# Altium schematic symbol library DIOT_temperature_logger.SCHLIB: 101 symbols (part 1 of 2)
Pins are listed as number, name and electrical type; pins without a type are passive.

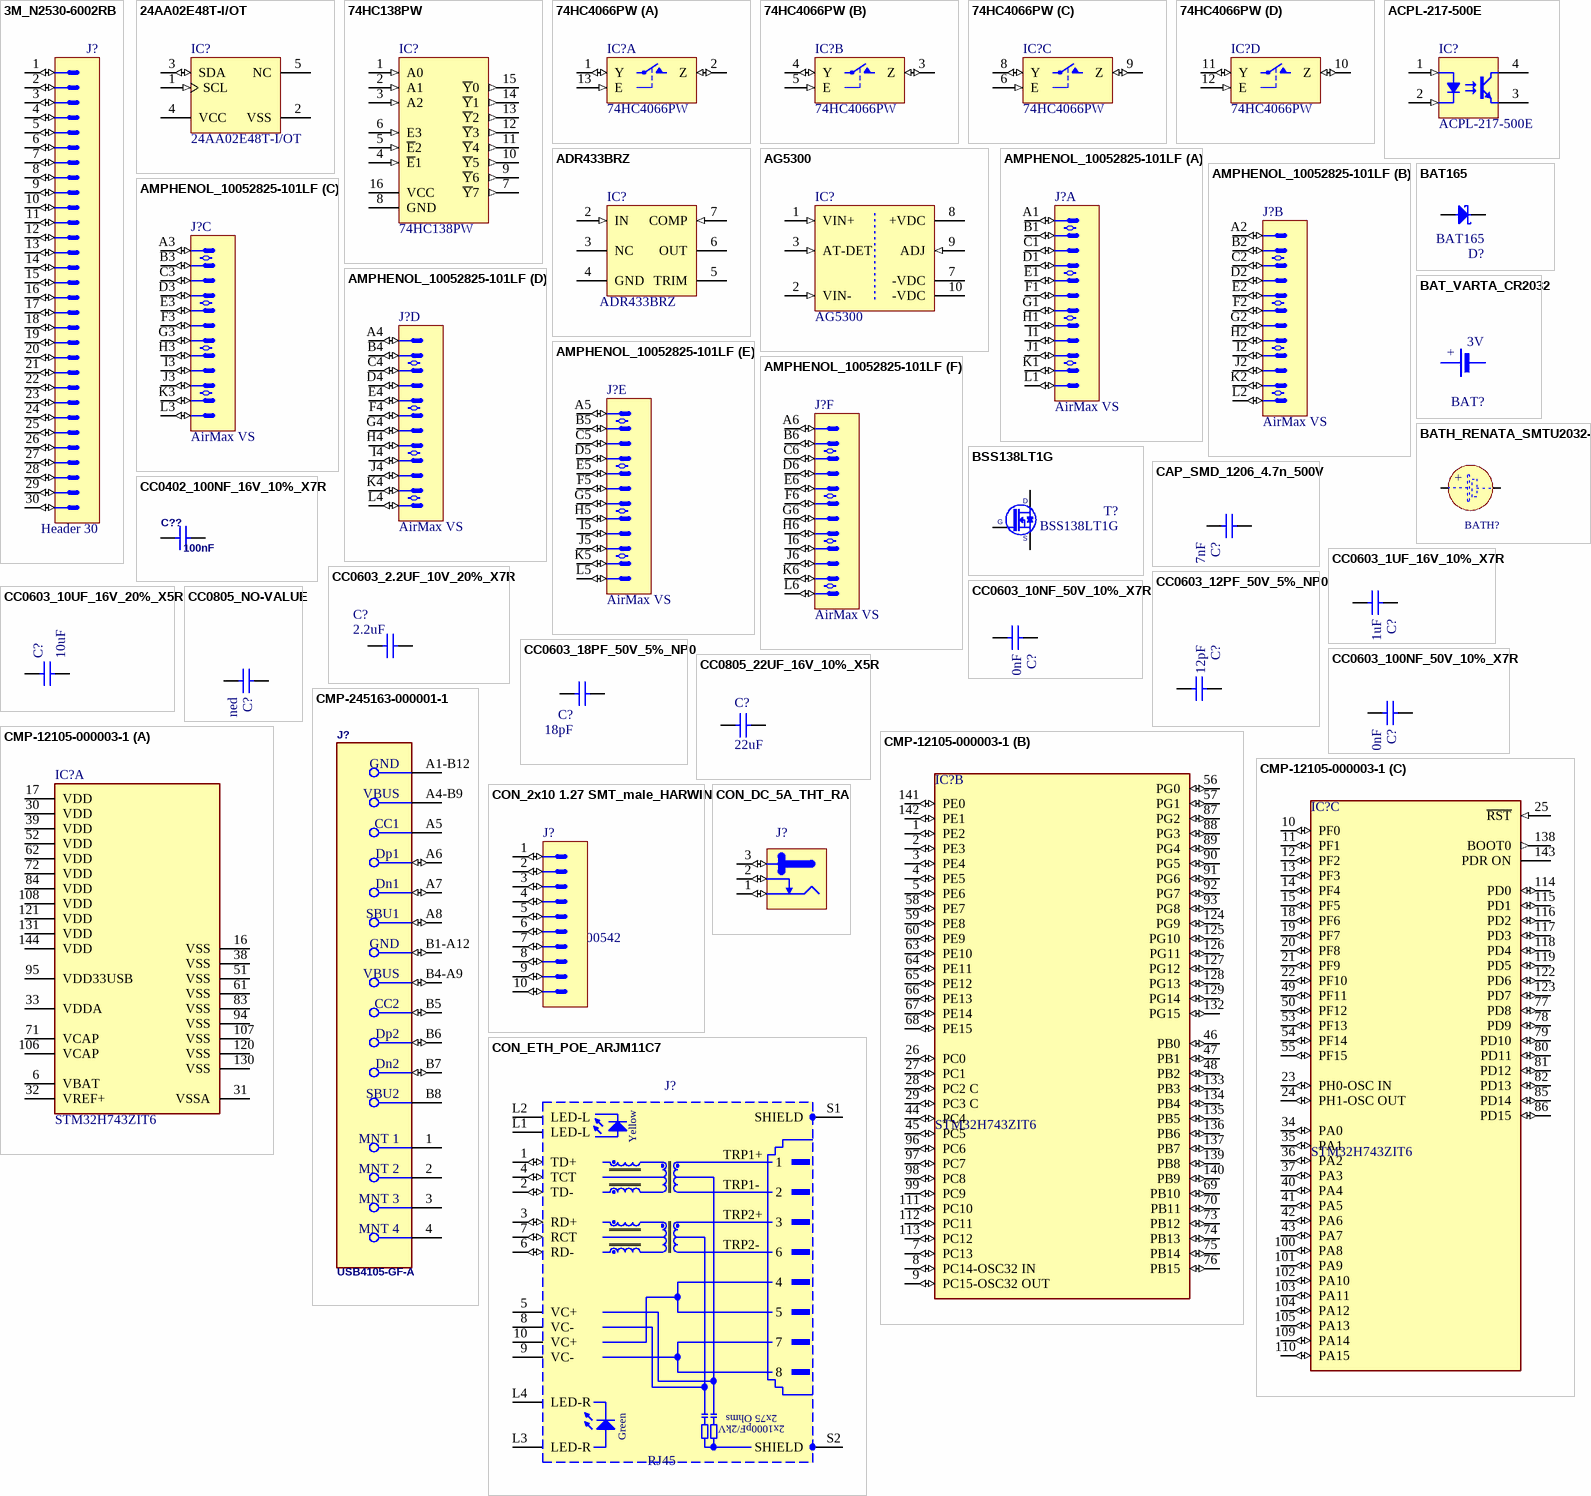
[diagram p0: symbols 3M_N2530-6002RB to CON_ETH_POE_ARJM11C7]

## 3M_N2530-6002RB
designator J?, comment Header 30
Connector 30 Male; Part Number: 3M_N2530-6002RB; Part Description: 30 Contacts, Straight .100'' x .100'' Low Profile Four-Wall Header, (Solder Tail 2.84mm), 2500 Series; Manufacturer: 3M; Manufacturer Part Number: N2530-6002RB; PressFit: No; Component Kind: Standard; Component Type: Standard; Footprint: 3M_N2530-6002RB; Pin Count: 30; Family: Header 30; Mounted: Yes; Socket: No; SMD: No; Sense: No; Status: None; ComponentHeight: 10.03mm; HelpURL: \\cern.ch\dfs\Applications\Altium\Datasheets\3M_N2530-6002RB.pdf; Author: CERN DEM JLC; CreateDate: 11.02.2009; LatestRevisionDate: 27.10.2022
footprint 3M_N2530-6002RB
pins: 1 (io), 2 (io), 3 (io), 4 (io), 5 (io), 6 (io), 7 (io), 8 (io), 9 (io), 10 (io), 11 (io), 12 (io), 13 (io), 14 (io), 15 (io), 16 (io), 17 (io), 18 (io), 19 (io), 20 (io), 21 (io), 22 (io), 23 (io), 24 (io), 25 (io), 26 (io), 27 (io), 28 (io), 29 (io), 30 (io)
1 alternate drawing of the same symbol

## 24AA02E48T-I/OT
designator IC?
1.7V-5.5V, 2K I2C Serial EEPROM With EUI-48 Node Identity; Manufacturer: MICROCHIP TECHNOLOGY; PressFit: No; Bonding: No; Part Number: 24AA02E48T-I/OT; Component Kind: Standard; Component Type: Standard; Device: 24AA02E48T-I/OT; Footprint: SOT95P280X145-5N; PackageDescription: SOT, 0.95mm pitch; 5 pin, 1.60mm W X 2.90mm L X 1.45mm H body, IPC Medium Density; Part Description: 1.7V-5.5V, 2K I2C Serial EEPROM with EUI-48 Node Identity; Manufacturer Part Number: 24AA02E48T-I/OT; Pin Count: 5; Case: SOT23-5; Mounted: Yes; Socket: No; SMD: Yes; Sense: No; ComponentHeight: 1.45mm; HelpURL: \\cern.ch\dfs\Applications\Altium\Datasheets\24AA02E48T-I-OT.pdf; Author: CERN DEM MR; CreateDate: 31.03.2016; LatestRevisionDate: 31.03.2016
footprint SOT95P280X145-5N
pins: 1 SCL (in), 2 VSS (power), 3 SDA (io), 4 VCC (power), 5 NC

## 74HC138PW
designator IC?
3-Line to 8-Line Decoder/Demultiplexer; Part Description: 3-Line to 8-Line Decoder/Demultiplexer, Inverting; Manufacturer: NXP SEMICONDUCTORS; PressFit: No; Bonding: No; Part Number: 74HC138PW; Component Kind: Standard; Component Type: Standard; Device: 74HC138PW; Footprint: SOP65P640X110-16N; PackageDescription: SOP, 0.65mm Pitch; 16 Pin, 4.40mm W X 5.00mm L X 1.10mm H body IPC Medium Density; Manufacturer Part Number: 74HC138PW; Pin Count: 16; Case: TSSOP16; Mounted: Yes; Socket: No; SMD: Yes; Sense: No; ComponentHeight: 1.1mm; Author: CERN DEM JLC; HelpURL: \\cern.ch\dfs\Applications\Altium\Datasheets\74HC138PW.pdf; CreateDate: 09.06.2015; LatestRevisionDate: 09.06.2015
footprint SOP65P640X110-16N
pins: 1 A0 (in), 2 A1 (in), 3 A2 (in), 4 ~{E}1 (in), 5 ~{E}2 (in), 6 E3 (in), 7 ~{Y}7 (out), 8 GND (power), 9 ~{Y}6 (out), 10 ~{Y}5 (out), 11 ~{Y}4 (out), 12 ~{Y}3 (out), 13 ~{Y}2 (out), 14 ~{Y}1 (out), 15 ~{Y}0 (out), 16 VCC (power)

## 74HC4066PW
designator IC?
Part Description: Quad Single-Pole Single-Throw Analog Switch; Manufacturer: NXP SEMICONDUCTORS; PressFit: No; Bonding: No; Part Number: 74HC4066PW; Component Kind: Standard; Component Type: Standard; Device: 74HC4066PW; Footprint: SOP65P640X110-14N; PackageDescription: SOP, 0.65mm Pitch; 14 Pin, 4.40mm W X 5.00mm L X 1.20mm H body, IPC Medium Density; Manufacturer Part Number: 74HC4066PW; Pin Count: 14; Case: TSSOP14; Mounted: Yes; Socket: No; SMD: Yes; Sense: No; ComponentHeight: 1.1mm; Author: CERN DEM JLC; HelpURL: \\cern.ch\dfs\Applications\Altium\Datasheets\74HC4066PW.pdf; CreateDate: 19.11.2014; LatestRevisionDate: 19.11.2014
footprint SOP65P640X110-14N
pins on every part: 7 GND (power) hidden to GND, 14 VCC (power) hidden to VCC
part A pins: 1 Y (io), 2 Z (io), 13 E (in)
part B pins: 3 Z (io), 4 Y (io), 5 E (in)
part C pins: 6 E (in), 8 Y (io), 9 Z (io)
part D pins: 10 Z (io), 11 Y (io), 12 E (in)

## ACPL-217-500E
designator IC?
Single Optocoupler; Part Description: DC Input, Half-Pitch Phototransistor Optocoupler; Manufacturer: AVAGO TECHNOLOGIES; PressFit: No; Bonding: No; Part Number: ACPL-217-500E; Component Kind: Standard; Component Type: Standard; Device: ACPL-217-500E; Footprint: SOIC127P700X242-4N; PackageDescription: SOIC, 1.27mm Pitch; 4 Pin, 2.60mm W X 4.40mm L X 2.42mm H body, IPC Medium Density; Status: Not Recommended; Manufacturer Part Number: ACPL-217-500E; Pin Count: 4; Case: SOIC4; Mounted: Yes; Socket: No; SMD: Yes; Sense: No; ComponentHeight: 2.42mm; HelpURL: \\cern.ch\dfs\Applications\Altium\Datasheets\ACPL-217-500E.pdf; Author: CERN DEM JLC; CreateDate: 11.11.2014; LatestRevisionDate: 11.11.2014
footprint SOIC127P700X242-4N
pins: 1 A (in), 2 C (in), 3 E (oe), 4 C (oc)

## ADR433BRZ
designator IC?
3.000V ±0.05% 3ppm/°C Ultralow Noise XFET Voltage Reference with Current Sink and Source Capability; Part Description: 3V Output,  ±1.5mV ±0.05% Accuracy, 3ppm/°C Ultralow Noise XFET Voltage Reference with Current Sink and Source Capability; Manufacturer: ANALOG DEVICES; PressFit: No; Bonding: No; Part Number: ADR433BRZ; Component Kind: Standard; Component Type: Standard; Device: ADR433BRZ; Footprint: SOIC127P600X175-8N; PackageDescription: SOIC 8, Pitch 1.27mm, Body 4x5mm, IPC Medium Density; Manufacturer Part Number: ADR433BR; Pin Count: 6; Case: SOIC8; Mounted: Yes; Socket: No; SMD: Yes; Sense: No; ComponentHeight: 1.75mm; HelpURL: \\cern.ch\dfs\Applications\Altium\Datasheets\ADR433BRZ.pdf; Author: CERN DEM JMW; CreateDate: 30.07.2014; LatestRevisionDate: 04.04.2022
footprint SOIC127P600X175-8N
pins: 2 IN (in), 3 NC, 4 GND (power), 5 TRIM, 6 OUT (power), 7 COMP (in)

## AG5300
designator IC?
Power-over-Ethernet Plus (POE+) Module; Part Description: 12V 30W Power-over-Ethernet Plus (POE+); Manufacturer: SILVERTEL; PressFit: No; Bonding: No; Part Number: AG5300; Component Kind: Standard; Component Type: Standard; Device: AG5300; Footprint: SILVERTEL_AG5300; PackageDescription: Power-over-Ethernet Plus (POE+) Module, Body L 57.3mm x W 18mm x H 14mm; Manufacturer Part Number: AG5300; Pin Count: 10; Mounted: Yes; Socket: No; SMD: No; Sense: No; ComponentHeight: 14mm; HelpURL: \\cern.ch\dfs\Applications\Altium\Datasheets\AG5300.pdf; Author: CERN DEM JLC; CreateDate: 20.03.2018; LatestRevisionDate: 20.03.2018
footprint SILVERTEL_AG5300
pins: 1 VIN+ (in), 2 VIN- (in), 3 AT-DET (in), 7 -VDC (power), 8 +VDC (power), 9 ADJ (in), 10 -VDC (power)

## AMPHENOL_10052825-101LF
designator J?, comment AirMax VS
72 Contacts Header, 6 Columns, 4 Pairs per Column; Part Number: AMPHENOL_10052825-101LF; Part Description: 72 Contacts, 2mm Pitch, 6 Columns, 4 Pairs per Column, 4 Walls, Right Angle Header; Manufacturer: AMPHENOL; Manufacturer Part Number: 10052825-101LF; Component Kind: Standard; Component Type: Standard; Footprint: AMPHENOL_10052825-101LF; Pin Count: 72; Family: AirMax VS; Mounted: Yes; Socket: No; SMD: No; PressFit: Yes; Sense: No; Status: None; ComponentHeight: 15.35mm; HelpURL: \\cern.ch\dfs\Applications\Altium\Datasheets\AMPHENOL_10052825-101LF.pdf; ComponentLink1URL: \\cern.ch\dfs\Applications\Altium\Datasheets\AMPHENOL_10052825-101LF_Application.pdf; ComponentLink1Description: Application; Author: CERN DEM MR; CreateDate: 19.02.2018; LatestRevisionDate: 19.02.2018
footprint AMPHENOL_10052825-101LF
part A pins: A1 (io), B1 (io), C1 (io), D1 (io), E1 (io), F1 (io), G1 (io), H1 (io), I1 (io), J1 (io), K1 (io), L1 (io)
part B pins: A2 (io), B2 (io), C2 (io), D2 (io), E2 (io), F2 (io), G2 (io), H2 (io), I2 (io), J2 (io), K2 (io), L2 (io)
part C pins: A3 (io), B3 (io), C3 (io), D3 (io), E3 (io), F3 (io), G3 (io), H3 (io), I3 (io), J3 (io), K3 (io), L3 (io)
part D pins: A4 (io), B4 (io), C4 (io), D4 (io), E4 (io), F4 (io), G4 (io), H4 (io), I4 (io), J4 (io), K4 (io), L4 (io)
part E pins: A5 (io), B5 (io), C5 (io), D5 (io), E5 (io), F5 (io), G5 (io), H5 (io), I5 (io), J5 (io), K5 (io), L5 (io)
part F pins: A6 (io), B6 (io), C6 (io), D6 (io), E6 (io), F6 (io), G6 (io), H6 (io), I6 (io), J6 (io), K6 (io), L6 (io)
1 alternate drawing of the same symbol

## BAT165
designator D?
Schottky Diode; Part Description: Medium Power AF Schottky Diode; Manufacturer: INFINEON; Voltage: 40V; Power: 750mA; PressFit: No; Bonding: No; Part Number: BAT165; Component Kind: Standard; Component Type: Standard; Device: BAT165; Footprint: SOD2512X110N; PackageDescription: Small Outline Diode (SOD-323), 1.70mm W X 1.25mm L X 1.10mm H body,  IPC Medium Density; Manufacturer Part Number: BAT165; Pin Count: 2; Case: SOD-323; Mounted: Yes; Socket: No; SMD: Yes; Sense: No; ComponentHeight: 1.1mm; HelpURL: \\cern.ch\dfs\Applications\Altium\Datasheets\BAT165.pdf; Author: CERN DEM JLC; CreateDate: 12.11.2014; LatestRevisionDate: 12.11.2014
footprint SOD2512X110N
pins: 1 C, 2 A

## BAT_VARTA_CR2032
designator BAT?, comment 3V
Battery for use only with Socket Holder; Part Number: BAT_VARTA_CR2032; Part Description: 20x3.2mm Lithium Coin Cells Type CR2032; Manufacturer: VARTA; Manufacturer Part Number: 6032101501; PressFit: No; Power: 230mAh; Component Kind: Accessories; Component Type: Standard; Footprint: BAT_VARTA_CR2032; Pin Count: 0; PackageDescription: CR2032, 20mm Diameter x 3.2mm  Height Lithium Coin Cells; Family: Battery; Mounted: Yes; Socket: Yes; SMD: No; Sense: No; Value: 3V; ComponentHeight: 3.2mm; HelpURL: \\cern.ch\dfs\Applications\Altium\Datasheets\BAT_VARTA_CR2032.pdf; Author: CERN DEM JLC; CreateDate: 20.10.2009; LatestRevisionDate: 20.10.2009
footprint BAT_VARTA_CR2032
text: +

## BATH_RENATA_SMTU2032-LF
designator BATH?
Battery Holder whit 2 Pin; Part Number: BATH_RENATA_SMTU2032-LF; Part Description: SMD Battery Holder for CR2032 Coin Cells; Manufacturer: RENATA; Manufacturer Part Number: SMTU2032-LF; PressFit: No; Component Kind: Standard; Component Type: Standard; Footprint: BATH_RENATA_SMTU2032; Pin Count: 2; PackageDescription: SMD Battery Holder for CR2032 Coin Cells; Family: Battery; Mounted: Yes; Socket: No; SMD: Yes; Sense: No; ComponentHeight: 5.6mm; HelpURL: \\cern.ch\dfs\Applications\Altium\Datasheets\BATH_RENATA_SMTU2032-LF.pdf; Author: CERN DEM BC; CreateDate: 07.10.2019; LatestRevisionDate: 07.10.2019
footprint BATH_RENATA_SMTU2032
pins: 1 PLUS (power), 2 MINUS (power)
text: +

## BSS138LT1G
designator T?
N-CHANNEL MOSFET WITH DIODE; Part Description: 50V, 200mA N-Channel Enhancement Mode Field-Effect Transistor; Manufacturer: ON SEMICONDUCTOR; PressFit: No; Bonding: No; Part Number: BSS138LT1G; Component Kind: Standard; Component Type: Standard; Device: BSS138LT1G; Footprint: SOT95P240X110-3N; PackageDescription: SOT23, 0.95mm Pitch; 3 Pin, 1.40mm W X 3.00mm L X 1.10mm H body, IPC Medium Density; Manufacturer Part Number: BSS138L; Pin Count: 3; Case: SOT23-3; Mounted: Yes; Socket: No; SMD: Yes; Sense: No; ComponentHeight: 1.11mm; HelpURL: \\cern.ch\dfs\Applications\Altium\Datasheets\BSS138LT1G.pdf; Author: CERN DEM JLC; CreateDate: 23.03.2009; LatestRevisionDate: 25.05.2022
footprint SOT95P240X110-3N
pins: 1 G, 2 S, 3 D

## CAP_SMD_1206_4.7n_500V
designator C?, comment 4.7nF
Non-polarised capacitor; Part Number: CC1206_4.7NF_500V_10%_X7R; Part Description: SMD Multilayer Chip Ceramic Capacitor; Manufacturer: GENERIC; Manufacturer1 Part Number: C1206C472KCRACTU; Voltage: 500V; TC: X7R; Tolerance: ±10%; Table: Capacitors SMD; Component Kind: Standard; Component Type: Standard; Footprint: CAPC3216X140N; Pin Count: 2; Value: 4.7nF; Status: Preferred; Manufacturer Part Number: CC1206_4.7NF_500V_10%_X7R; Case: 1206; Mounted: Yes; Socket: No; SMD: Yes; Manufacturer1 Example: KEMET; Manufacturer1 ComponentHeight: 1.7mm; HelpURL: \\cern.ch\dfs\Applications\Altium\Datasheets\CC1206_X7R_VISHAY_VJ.pdf; Author: GK; CreateDate: 2007-12-03; LatestRevisionDate: 2007-12-03
footprint CAPC3216X140N
pins: 1, 2

## CC0402_100NF_16V_10%_X7R
designator C??, comment 100nF
Non-polarised capacitor; Part Number: CC0402_100NF_16V_10%_X7R; Part Description: SMD Multilayer Chip Ceramic Capacitor; Manufacturer: GENERIC; Manufacturer1 Part Number: GRM155R71C104KA88D; Voltage: 16V; TC: X7R; Tolerance: ±10%; Component Kind: Standard; Component Type: Standard; Footprint: CAPC1005X55N; Pin Count: 2; Value: 100nF; Status: Not Recommended; Manufacturer Part Number: CC0402_100NF_16V_10%_X7R; Case: 0402; Mounted: Yes; Socket: No; SMD: Yes; Sense: No; Manufacturer1 Example: MURATA; Manufacturer1 ComponentHeight: 0.55mm; HelpURL: \\cern.ch\dfs\Applications\Altium\Datasheets\CC0402_X7R_MURATA_GRM.pdf; Author: CERN DEM JLC; CreateDate: 05/12/2013; LatestRevisionDate: 03/12/2007
footprint CAPC1005X55N (Capacitor, Non-Polarized, Chip; 1.00mm L X 0.50mm W X 0.70mm H, IPC Medium Density)
pins: 1, 2

## CC0603_1UF_16V_10%_X7R
designator C?, comment 1uF
Non-polarised capacitor; Part Number: CC0603_1UF_16V_10%_X7R; Part Description: SMD Multilayer Chip Ceramic Capacitor; Manufacturer: GENERIC; Manufacturer1 Part Number: 223878615663; Voltage: 16V; TC: X7R; Tolerance: ±10%; Component Kind: Standard; Component Type: Standard; Footprint: CAPC1608X87N; Pin Count: 2; Value: 1uF; Status: None; Manufacturer Part Number: CC0603_1UF_16V_10%_X7R; Case: 0603; Mounted: Yes; Socket: No; SMD: Yes; Sense: No; Manufacturer1 Example: YAGEO PHYCOMP; Manufacturer1 ComponentHeight: 0.9mm; HelpURL: \\cern.ch\dfs\Applications\Altium\Datasheets\CC0603_X7R_PHYCOMP.pdf; Author: CERN DEM JLC; CreateDate: 03.12.2007; LatestRevisionDate: 17.04.2015
footprint CAPC1608X87N
pins: 1, 2

## CC0603_2.2UF_10V_20%_X7R
designator C?, comment 2.2uF
Non-polarised capacitor; Part Number: CC0603_2.2UF_10V_20%_X7R; Part Description: SMD Multilayer Chip Ceramic Capacitor; Manufacturer: GENERIC; Manufacturer1 Part Number: LMK107B7225MA-T; Voltage: 10V; TC: X7R; Tolerance: ±20%; Component Kind: Standard; Component Type: Standard; Footprint: CAPC1608X90N; Pin Count: 2; Value: 2.2uF; Status: Not Recommended; Manufacturer Part Number: CC0603_2.2UF_10V_20%_X7R; Case: 0603; Mounted: Yes; Socket: No; SMD: Yes; Sense: No; Manufacturer1 Example: TAIYO YUDEN; Manufacturer1 ComponentHeight: 0.9mm; HelpURL: \\cern.ch\dfs\Applications\Altium\Datasheets\CC0603_X7R_TAIYO-YUDEN_HIGH-VALUE.pdf; Author: CERN DEM JLC; CreateDate: 22.06.2011; LatestRevisionDate: 27.06.2011
footprint CAPC1608X90N
pins: 1, 2

## CC0603_10NF_50V_10%_X7R
designator C?, comment 10nF
Non-polarised capacitor; Part Number: CC0603_10NF_50V_10%_X7R; Part Description: SMD Multilayer Chip Ceramic Capacitor; Manufacturer: GENERIC; Manufacturer1 Part Number: 223858615636; Voltage: 50V; TC: X7R; Tolerance: ±10%; Component Kind: Standard; Component Type: Standard; Footprint: CAPC1608X87N; Pin Count: 2; Value: 10nF; Status: Preferred; Manufacturer Part Number: CC0603_10NF_50V_10%_X7R; Case: 0603; Mounted: Yes; Socket: No; SMD: Yes; Sense: No; Manufacturer1 Example: PHYCOMP; Manufacturer1 ComponentHeight: 0.87mm; HelpURL: \\cern.ch\dfs\Applications\Altium\Datasheets\CC0603_X7R_PHYCOMP.pdf; Author: CERN DEM JLC; CreateDate: 03.12.2007; LatestRevisionDate: 03.12.2007
footprint CAPC1608X87N
pins: 1, 2

## CC0603_10UF_16V_20%_X5R
designator C?, comment 10uF
Non-polarised capacitor; Part Number: CC0603_10UF_16V_20%_X5R; Part Description: SMD Multilayer Chip Ceramic Capacitor; Manufacturer: GENERIC; Manufacturer1 Part Number: GRM188R61C106MA73D; Voltage: 16V; TC: X5R; Tolerance: ±20%; Component Kind: Standard; Component Type: Standard; Footprint: CAPC1608X80N; Pin Count: 2; Value: 10uF; Status: None; Manufacturer Part Number: CC0603_10UF_16V_20%_X5R; Case: 0603; Mounted: Yes; Socket: No; SMD: Yes; Sense: No; Manufacturer1 Example: MURATA; Manufacturer1 ComponentHeight: 0.8mm; HelpURL: \\cern.ch\dfs\Applications\Altium\Datasheets\CC0603_X5R_MURATA_GRM.pdf; Author: CERN DEM MR; CreateDate: 02.03.2016; LatestRevisionDate: 02.03.2016
footprint CAPC1608X80N
pins: 1, 2

## CC0603_12PF_50V_5%_NP0
designator C?, comment 12pF
Non-polarised capacitor; Part Number: CC0603_12PF_50V_5%_NP0; Part Description: SMD Multilayer Chip Ceramic Capacitor; Manufacturer: GENERIC; Manufacturer1 Part Number: 223886715129; Voltage: 50V; TC: C0G/NP0; Tolerance: ±5%; Component Kind: Standard; Component Type: Standard; Footprint: CAPC1608X87N; Pin Count: 2; Value: 12pF; Status: Preferred; Manufacturer Part Number: CC0603_12PF_50V_5%_NP0; Case: 0603; Mounted: Yes; Socket: No; SMD: Yes; Sense: No; Manufacturer1 Example: PHYCOMP; Manufacturer1 ComponentHeight: 0.87mm; HelpURL: \\cern.ch\dfs\Applications\Altium\Datasheets\CC0603_NP0_PHYCOMP.pdf; Author: CERN DEM JLC; CreateDate: 03.12.2007; LatestRevisionDate: 03.12.2007
footprint CAPC1608X87N
pins: 1, 2

## CC0603_18PF_50V_5%_NP0
designator C?, comment 18pF
Non-polarised capacitor; Part Number: CC0603_18PF_50V_5%_NP0; Part Description: SMD Multilayer Chip Ceramic Capacitor; Manufacturer: GENERIC; Manufacturer1 Part Number: 223886715189; Voltage: 50V; TC: C0G/NP0; Tolerance: ±5%; Component Kind: Standard; Component Type: Standard; Footprint: CAPC1608X87N; Pin Count: 2; Value: 18pF; Status: Preferred; Manufacturer Part Number: CC0603_18PF_50V_5%_NP0; Case: 0603; Mounted: Yes; Socket: No; SMD: Yes; Sense: No; Manufacturer1 Example: PHYCOMP; Manufacturer1 ComponentHeight: 0.87mm; HelpURL: \\cern.ch\dfs\Applications\Altium\Datasheets\CC0603_NP0_PHYCOMP.pdf; Author: CERN DEM JLC; CreateDate: 03.12.2007; LatestRevisionDate: 03.12.2007
footprint CAPC1608X87N
pins: 1, 2

## CC0603_100NF_50V_10%_X7R
designator C?, comment 100nF
Non-polarised capacitor; Part Number: CC0603_100NF_50V_10%_X7R; Part Description: SMD Multilayer Chip Ceramic Capacitor; Manufacturer: GENERIC; Manufacturer1 Part Number: 223858615649; Voltage: 50V; TC: X7R; Tolerance: ±10%; Component Kind: Standard; Component Type: Standard; Footprint: CAPC1608X87N; Pin Count: 2; Value: 100nF; Status: Preferred; Manufacturer Part Number: CC0603_100NF_50V_10%_X7R; Case: 0603; Mounted: Yes; Socket: No; SMD: Yes; Sense: No; Manufacturer1 Example: PHYCOMP; Manufacturer1 ComponentHeight: 0.87mm; HelpURL: \\cern.ch\dfs\Applications\Altium\Datasheets\CC0603_X7R_PHYCOMP.pdf; Author: CERN DEM JLC; CreateDate: 03.12.2007; LatestRevisionDate: 03.12.2007
footprint CAPC1608X87N
pins: 1, 2

## CC0805_22UF_16V_10%_X5R
designator C?, comment 22uF
Non-polarised capacitor; Part Number: CC0805_22UF_16V_10%_X5R; Part Description: SMD Multilayer Chip Ceramic Capacitor; Manufacturer: GENERIC; Manufacturer1 Part Number: C2012X5R1C226KT; Voltage: 16V; TC: X5R; Tolerance: ±10%; Component Kind: Standard; Component Type: Standard; Footprint: CAPC2012X135N; Pin Count: 2; Value: 22uF; Status: Preferred; Manufacturer Part Number: CC0805_22UF_16V_10%_X5R; Case: 0805; Mounted: Yes; Socket: No; SMD: Yes; Sense: No; Manufacturer1 Example: TDK; Manufacturer1 ComponentHeight: 1.35mm; HelpURL: \\cern.ch\dfs\Applications\Altium\Datasheets\CC0805_X5R_TDK_C.pdf; Author: CERN DEM JLC; CreateDate: 25.10.2012; LatestRevisionDate: 25.10.2012
footprint CAPC2012X135N
pins: 1, 2

## CC0805_NO-VALUE
designator C?, comment Undefined
Non-polarised capacitor; Part Number: CC0805_NO-VALUE; Part Description: Reserved Footprint For 0805(2012) Chip Ceramic Capacitor; Mounted: No; Component Kind: Standard; Component Type: Standard; Footprint: CAPC2012X135N; Pin Count: 2; Value: Undefined; Status: None; Manufacturer: Undefined; Manufacturer Part Number: CC0805_NO-VALUE; Case: 0805; Socket: No; SMD: Yes; Sense: No; Manufacturer1 ComponentHeight: 1.35mm; HelpURL: Undefined; Author: CERN DEM JLC; CreateDate: 10.12.2008; LatestRevisionDate: 11.09.2013
footprint CAPC2012X135N
pins: 1, 2

## CMP-12105-000003-1
designator IC?, comment STM32H743ZIT6
IC MCU 32BIT 2MB FLASH 144LQFP; Manufacturer: STMicroelectronics; Number Of I2C Channels: 4; Number Of A/D Converters: 2; Standoff Height: 0.05mm; Interface: I2C,SPI,UART,USART,EBI/EMI,CAN,USB,LIN,IrDA,Other; Max Supply Voltage: 3.6V; Number Of Adc Channels: 36; Ram Size: 1MBytes; Number Of Cores: 1; Frequency: 400MHz; Data Bus Width: 32bits; Core Architecture: ARM Cortex-M7; Memory Size: 2MBytes; Number Of Timers/Counters: 22; Min Supply Voltage: 1.62V; Number Of Spi Channels: 6; Max Junction Temp: +125°C; Number Of I/Os: 114; Digikey Description: IC MCU 32BIT 2MB FLASH 144LQFP; Device Class L2: Embedded Processors and Controllers; Number Of Usb Channels: 2; ComponentLink2Description: Datasheet; Ipc Land Pattern Name: QFP50P2200X2200X160-144; Category: IC; Lead Free: Yes; Temperature Range High: +85°C; Mouser Description: MCU 32-Bit STM32 ARM Cortex M7 RISC 2MB Flash 1.8V/2.5V/3.3V 144-Pin LQFP Tray; RoHS: TRUE; Ambient Temperature Range Low: -40°C; Temperature Range Low: -40°C; ComponentLink2URL: https://www.st.com/resource/en/datasheet/stm32h743zi.pdf; Ambient Temperature Range High: +85°C; Octopart: https://octopart.com/stm32h743zit6-stmicroelectronics-76372529; Number Of Pwm Channels: 2; Height: 1.6mm; Manufacturer Part Number: STM32H743ZIT6; Device Class L3: Microcontrollers; Device Class L1: Integrated Circuits (ICs); Automotive: No; Memory Type: FLASH; Number Of Uart Channels: 4; Package: LQFP144-1A; Temperature: -40°C to +85°C
footprint FP-LQFP144-1A-MFG
footprint FP-LQFP144-1A-IPC_C
footprint FP-LQFP144-1A-IPC_B
footprint FP-LQFP144-1A-IPC_A
part A pins: 6 VBAT (power), 16 VSS (power), 17 VDD (power), 30 VDD (power), 31 VSSA (power), 32 VREF+ (power), 33 VDDA (power), 38 VSS (power), 39 VDD (power), 51 VSS (power), 52 VDD (power), 61 VSS (power), 62 VDD (power), 71 VCAP (power), 72 VDD (power), 83 VSS (power), 84 VDD (power), 94 VSS (power), 95 VDD33USB (power), 106 VCAP (power), 107 VSS (power), 108 VDD (power), 120 VSS (power), 121 VDD (power), 130 VSS (power), 131 VDD (power), 144 VDD (power)
part B pins: 1 PE2 (io), 2 PE3 (io), 3 PE4 (io), 4 PE5 (io), 5 PE6 (io), 7 PC13 (io), 8 PC14-OSC32 IN (io), 9 PC15-OSC32 OUT (io), 26 PC0 (io), 27 PC1 (io), 28 PC2 C (io), 29 PC3 C (io), 44 PC4 (io), 45 PC5 (io), 46 PB0 (io), 47 PB1 (io), 48 PB2 (io), 56 PG0 (io), 57 PG1 (io), 58 PE7 (io), 59 PE8 (io), 60 PE9 (io), 63 PE10 (io), 64 PE11 (io), 65 PE12 (io), 66 PE13 (io), 67 PE14 (io), 68 PE15 (io), 69 PB10 (io), 70 PB11 (io), 73 PB12 (io), 74 PB13 (io), 75 PB14 (io), 76 PB15 (io), 87 PG2 (io), 88 PG3 (io), 89 PG4 (io), 90 PG5 (io), 91 PG6 (io), 92 PG7 (io), 93 PG8 (io), 96 PC6 (io), 97 PC7 (io), 98 PC8 (io), 99 PC9 (io), 111 PC10 (io), 112 PC11 (io), 113 PC12 (io), 124 PG9 (io), 125 PG10 (io), 126 PG11 (io), 127 PG12 (io), 128 PG13 (io), 129 PG14 (io), 132 PG15 (io), 133 PB3 (io), 134 PB4 (io), 135 PB5 (io), 136 PB6 (io), 137 PB7 (io), 139 PB8 (io), 140 PB9 (io), 141 PE0 (io), 142 PE1 (io)
part C pins: 10 PF0 (io), 11 PF1 (io), 12 PF2 (io), 13 PF3 (io), 14 PF4 (io), 15 PF5 (io), 18 PF6 (io), 19 PF7 (io), 20 PF8 (io), 21 PF9 (io), 22 PF10 (io), 23 PH0-OSC IN (io), 24 PH1-OSC OUT (io), 25 ~{RST} (in), 34 PA0 (io), 35 PA1 (io), 36 PA2 (io), 37 PA3 (io), 40 PA4 (io), 41 PA5 (io), 42 PA6 (io), 43 PA7 (io), 49 PF11 (io), 50 PF12 (io), 53 PF13 (io), 54 PF14 (io), 55 PF15 (io), 77 PD8 (io), 78 PD9 (io), 79 PD10 (io), 80 PD11 (io), 81 PD12 (io), 82 PD13 (io), 85 PD14 (io), 86 PD15 (io), 100 PA8 (io), 101 PA9 (io), 102 PA10 (io), 103 PA11 (io), 104 PA12 (io), 105 PA13 (io), 109 PA14 (io), 110 PA15 (io), 114 PD0 (io), 115 PD1 (io), 116 PD2 (io), 117 PD3 (io), 118 PD4 (io), 119 PD5 (io), 122 PD6 (io), 123 PD7 (io), 138 BOOT0 (out), 143 PDR ON (power)

## CMP-245163-000001-1
designator J?, comment USB4105-GF-A
CONN RCPT USB2.0 TYPEC 5A; Manufacturer: GCT; Voltage Rating: 20V; Is Female: yes; Current Rating: 5/6.25/1.25/0.25A; Number Of Contacts: 16; Conn Orientation: Right Angle; Device Class L1: Connectors; Category: Conn; Lead Free: Yes; RoHS: TRUE; Temperature Range High: +85°C; Digikey Description: CONN RCPT USB2.0 TYPEC 5A; Device Class L3: unset; ComponentLink2Description: Datasheet; Manufacturer Part Number: USB4105-GF-A; Package: 0; Usb Standard: USB 2.0; Device Class L2: USB Connectors; Automotive: No; Temperature Range Low: -40°C; Height: 3.46mm; Temperature: -40°C to +85°C; Contact Material: Gold,Nickel; ComponentLink2URL: https://gct.co/files/drawings/usb4105.pdf; Octopart: https://octopart.com/usb4105-gf-a-gct-106627878
footprint FP-USB4105-GF-A-MFG
pins: 1 MNT 1 (power), 2 MNT 2 (power), 3 MNT 3 (power), 4 MNT 4 (power), A1-B12 GND (power), A4-B9 VBUS (power), A5 CC1 (power), A6 Dp1 (io), A7 Dn1 (io), A8 SBU1 (io), B1-A12 GND (io), B4-A9 VBUS (io), B5 CC2 (io), B6 Dp2 (io), B7 Dn2 (io), B8 SBU2 (power)

## CON_2x10 1.27 SMT_male_HARWIN
designator J?, comment Manufacturer Part Number: M50-3600542  (hidden comment: Header 10)
10 Contacts - Pitch 1.27mm - Dual Row SMT Vertical Pin Header (Post Lead = 3mm, Insulator 1mm); Part Number: HARWIN_M50-3600542; Manufacturer: HARWIN; PressFit: No; Component Kind: Standard; Component Type: Standard; Footprint: HARWIN_M50-3600542; Pin Count: 10; Family: Header 10; Mounted: Yes; Socket: No; SMD: Yes; Sense: No; Status: None; Part Description: 10 Contacts - Pitch 1.27mm - Dual Row SMT Vertical Pin Header (Post Lead = 3mm, Insulator 1mm); ComponentHeight: 5.13mm; HelpURL: \\cern.ch\dfs\Applications\Altium\Datasheets\HARWIN_M50-3600842.pdf; Author: GK; CreateDate: 15.03.2017; LatestRevisionDate: 22.05.2017
footprint HARWIN_M50-3600542 (10 Contacts - Pitch 1.27mm - Dual Row SMT Vertical Pin Header)
pins: 1 (io), 2 (io), 3 (io), 4 (io), 5 (io), 6 (io), 7 (io), 8 (io), 9 (io), 10 (io)
1 alternate drawing of the same symbol

## CON_DC_5A_THT_RA
designator J?, comment Jack  (value not drawn)
24V /3. 5A, 2.1mm Diameter Pin, SMD DC Power Supply Connector With  Break Contact; Part Number: SWITCHCRAFT_712RA; Part Description: 12V/5A, 2.5mm Diameter Pin, THT DC Power Supply Connector With  Break Contact; Manufacturer: SWITCHCRAFT; Manufacturer Part Number: 712RA; PressFit: No; Component Kind: Standard; Component Type: Standard; Footprint: SWITCHCRAFT_712RA; Pin Count: 3; Family: Jack; Mounted: Yes; Socket: No; SMD: No; Sense: No; Status: None; ComponentHeight: 11mm; HelpURL: \\cern.ch\dfs\Applications\Altium\Datasheets\LUMBERG_161314.pdf; Author: GK; CreateDate: 15.02.2011; LatestRevisionDate: 20.07.2011
footprint SWITCHCRAFT_L712RA (CONN PWR JACK 2.5X5.5MM SOLDER)
pins: 1 (io), 2 (io), 3 (io)

## CON_ETH_POE_ARJM11C7
designator J?, comment RJ45
MagJack 10/100BaseT, PoE+, 1X1, OG/Y, -40 to 85*C, Tab Up, RoHS; Part Number: 5-2337992-3; Part Description: 1 Port, Orange Green/Yellow LEDs, RJ45 10/100BaseT, PoE, Ethernet MagJack® Connector Module; Manufacturer: TE; PressFit: No; Component Kind: Standard; Component Type: Standard; Footprint: ABRACON_ARJM11C7-114-BA-EW2; Pin Count: 18; Family: RJ45; Mounted: Yes; Socket: No; SMD: No; Sense: No; Status: None; Manufacturer Part Number: 5-2337992-3; ComponentHeight: 13.61mm; HelpURL: \\cern.ch\dfs\Applications\Altium\Datasheets\BELFUSE_0826-1X1T-GJ-F.pdf; Author: GK; CreateDate: 05.11.2012; LatestRevisionDate: 05.11.2012
footprint ABRACON_ARJM11C7-114-BA-EW2 (LAN Transformer, body 21.84x15.88mm)
pins: 1 TD+ (io), 2 TD- (io), 3 RD+ (io), 4 TCT (io), 5 VC+, 6 RD- (io), 7 RCT (io), 8 VC-, 9 VC-, 10 VC+, L1 LED-L, L2 LED-L, L3 LED-R, L4 LED-R, S1 SHIELD (power), S2 SHIELD (power)
text: Yellow; TRP1+; TRP1-; TRP2+; TRP2-; 2x75 Ohms; Green; 2x1000pF/2kV

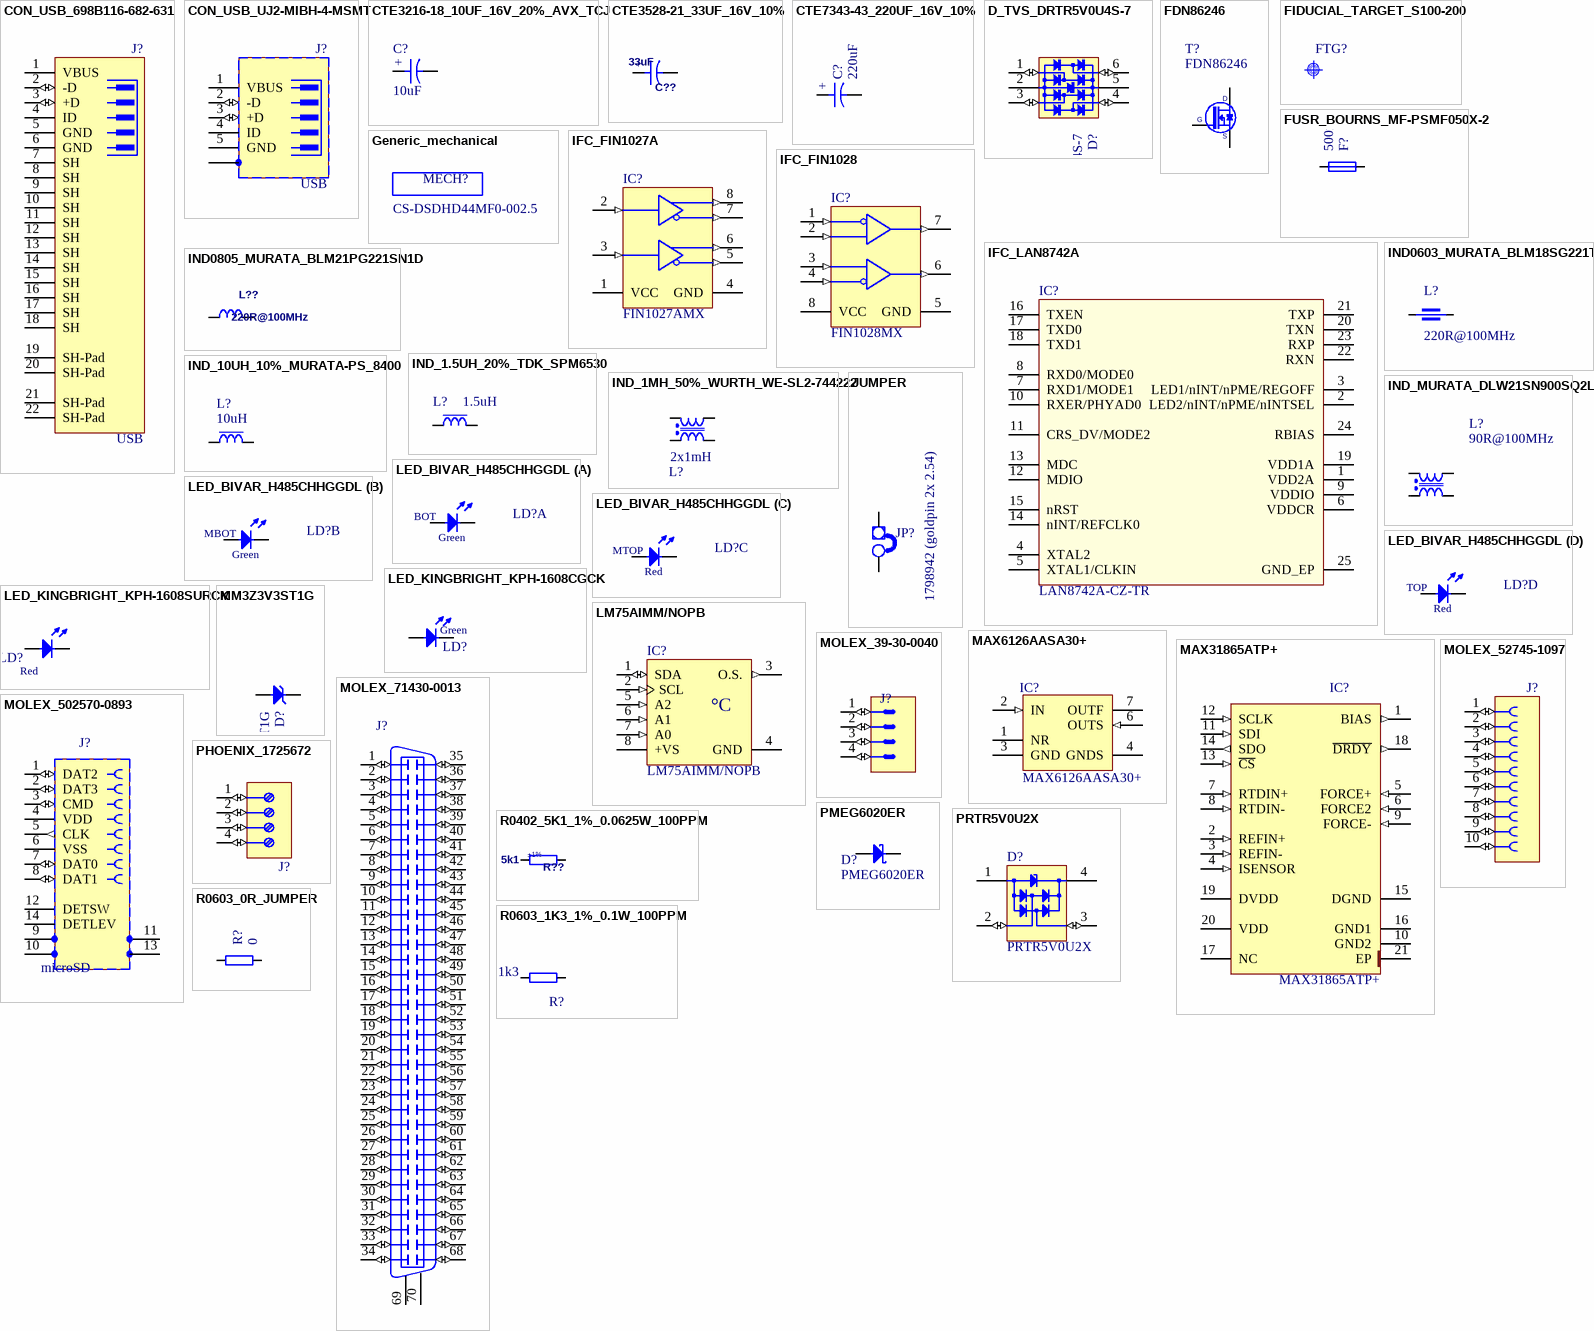
[diagram p1: symbols CON_USB_698B116-682-631 to R0603_1K3_1%_0.1W_100PPM]

## CON_USB_698B116-682-631
designator J?, comment USB
USB-C (USB TYPE-C) USB 3.2 Gen 2 (USB 3.1 Gen 2, Superspeed + (USB 3.1)) Receptacle Connector 24 (16+8 Dummy) Position Board Cutout, Surface Mount, Right Angle; Through Hole; Part Number: 698B116-682-631; Manufacturer: EDAC; PressFit: No; Component Kind: Standard; Component Type: Standard; Footprint: 698B116-682-631; Pin Count: 16; Family: USB; Mounted: Yes; Socket: No; SMD: Yes; Sense: No; Status: None; Part Description: USB-C (USB TYPE-C) USB 3.2 Gen 2 (USB 3.1 Gen 2, Superspeed + (USB 3.1)) Receptacle Connector 24 (16+8 Dummy) Position Board Cutout, Surface Mount, Right Angle; Through Hole; Manufacturer Part Number: 698B116-682-631; ComponentHeight: xx; HelpURL: xx; Author: ŁP; CreateDate: 05/07/2024; LatestRevisionDate: 05/07/2024
footprint 698B116-682-631 (Footprint not found)
pins: 1 VBUS (power), 2 -D (io), 3 +D (io), 4 ID, 5 GND (power), 6 GND (power), 7 SH (power), 8 SH (power), 9 SH (power), 10 SH (power), 11 SH (power), 12 SH (power), 13 SH (power), 14 SH (power), 15 SH (power), 16 SH (power), 17 SH (power), 18 SH (power), 19 SH-Pad (power), 20 SH-Pad (power), 21 SH-Pad (power), 22 SH-Pad (power)

## CON_USB_UJ2-MIBH-4-MSMT
designator J?, comment USB
5 Pin + 1 Shield  in-line USB Receptacle; Part Number: CUI_UJ2-MIBH-4-MSMT; Part Description: 0.65mm Pitch, Micro-USB Type B Surface Mounte Vertical Receptacle; Manufacturer: CUI; Manufacturer Part Number: UJ2-MIBH-4-MSMT; PressFit: No; Component Kind: Standard; Component Type: Standard; Footprint: UJ2-MIBH-4-MSMT; Pin Count: 11; Family: USB; Mounted: Yes; Socket: No; SMD: Yes; Sense: No; Status: None; ComponentHeight: 1.1; HelpURL: \\cern.ch\dfs\Applications\Altium\Datasheets\MOLEX_105133-0011.pdf; Author: GK; CreateDate: 13/12/2017; LatestRevisionDate: 13/12/2017
footprint UJ2-MIBH-4-MSMT (Micro USB mid mount)
pins: 1 VBUS (power), 2 -D (io), 3 +D (io), 4 ID, 5 GND (power), 6 SH (power), 7 SH (power), 8 SH (power), 9 SH (power), 10 SH (power), 11 SH (power)

## CTE3216-18_10UF_16V_20%_AVX_TCJ
designator C?, comment 10uF
Polarised capacitor; Part Number: CTE3216-18_10UF_16V_20%_AVX_TCJ; Part Description: ESR 0R200 Tantalum Solid Electrolytic Chip Capacitor with Conductive Polymer Electrode; Manufacturer: AVX; Manufacturer Part Number: TCJA106M016R0200; Voltage: 16V; Tolerance: ±20%; Component Kind: Standard; Component Type: Standard; Footprint: CAPMP3216X180N; Pin Count: 2; Value: 10uF; Status: Preferred; Case: A; Mounted: Yes; Socket: No; SMD: Yes; Sense: No; ComponentHeight: 1.8mm; HelpURL: \\cern.ch\dfs\Applications\Altium\Datasheets\CTE_AVX_TCJ.pdf; Author: CERN DEM JLC; CreateDate: 29.03.2012; LatestRevisionDate: 29.03.2012
footprint CAPMP3216X180N
pins: 1, 2
text: +

## CTE3528-21_33UF_16V_10%
designator C??, comment 33uF
Polarised capacitor; Part Number: CTE3528-21_33UF_16V_10%; Part Description: Solid Tantalum Chip Capacitor; Manufacturer: GENERIC; Manufacturer1 Part Number: TAJB336K016R; Voltage: 16V; Tolerance: ±10%; Component Kind: Standard; Component Type: Standard; Footprint: CAPMP3528X210N; Pin Count: 2; Value: 33uF; Status: Preferred; Manufacturer Part Number: CTE3528-21_33UF_16V_10%; Case: B; Mounted: Yes; Socket: No; SMD: Yes; Sense: No; HelpURL: \\cern.ch\dfs\Applications\Altium\Datasheets\CTE_AVX_TAJ.pdf; Author: CERN DEM JLC; CreateDate: 03.12.2007; LatestRevisionDate: 03.12.2007; Manufacturer1 Example: AVX; Manufacturer1 ComponentHeight: 2.1mm
footprint CAPMP3528X210N (Capacitor, Polarized, Molded  Body 3.5x2.8mm, IPC Medium Density)
pins: 1, 2
text: +

## CTE7343-43_220UF_16V_10%
designator C?, comment 220uF
Polarised capacitor; Part Number: CTE7343-43_220UF_16V_10%; Part Description: Solid Tantalum Chip Capacitor; Manufacturer: GENERIC; Manufacturer1 Part Number: TAJE227K016R; Voltage: 16V; Tolerance: ±10%; Component Kind: Standard; Component Type: Standard; Footprint: CAPMP7343X430N; Pin Count: 2; Value: 220uF; Status: Preferred; Manufacturer Part Number: CTE7343-43_220UF_16V_10%; Case: E; Mounted: Yes; Socket: No; SMD: Yes; Sense: No; Manufacturer1 Example: AVX; Manufacturer1 ComponentHeight: 4.3mm; HelpURL: \\cern.ch\dfs\Applications\Altium\Datasheets\CTE_AVX_TAJ.pdf; Author: CERN DEM JLC; CreateDate: 03.12.2007; LatestRevisionDate: 03.12.2007
footprint CAPMP7343X430N
pins: 1, 2
text: +

## D_TVS_DRTR5V0U4S-7
designator D?, comment DRTR5V0U4S-7
Integrated Quad Ultra-Low Capacitance ESD Protection; Part Description: Integrated Quad Ultra-Low Capacitance ESD (±8kV) Protection; Manufacturer: DIODES; PressFit: No; Bonding: No; Status Comment: Active; Part Number: DRTR5V0U4S-7; Component Kind: Standard; Component Type: Standard; Device: DRTR5V0U4S-7; Footprint: SOT65P210X110-6N; PackageDescription: SOT363, SC70-6, 0.65mm Pitch; 6 Pin, 1.25mm W X 2.00mm L X 1.10mm H body, IPC Medium Density; Status: Active; Manufacturer Part Number: DRTR5V0U4S-7; Pin Count: 6; Case: SOT363; Mounted: Yes; Socket: No; SMD: Yes; Sense: No; ComponentHeight: 1.1mm; HelpURL: \\cern.ch\dfs\Applications\Altium\Datasheets\PRTR5V0U4Y.pdf; Author: GK; CreateDate: 24.01.2017; LatestRevisionDate: 14.09.2020
footprint SOT65P210X110-6N
pins: 1 I/O1 (io), 2 GND (power), 3 I/O2 (io), 4 I/O3 (io), 5 VBUS (power), 6 I/O4 (io)

## FDN86246
designator T?
N-CHANNEL MOSFET WITH DIODE; Part Description: 150V, 1.6A, N-Channel Power Trench® MOSFET; Manufacturer: ON SEMICONDUCTOR; PressFit: No; Bonding: No; Part Number: FDN86246; Component Kind: Standard; Component Type: Standard; Device: FDN86246; Footprint: SOT95P237X112-3N; PackageDescription: SOT23, 0.95mm Pitch; 3 Pin, 1.30mm W X 2.92mm L X 1.12mm H body, IPC Medium Density; Manufacturer Part Number: FDN86246; Pin Count: 3; Case: SOT23-3; Mounted: Yes; Socket: No; SMD: Yes; Sense: No; ComponentHeight: 1.12mm; HelpURL: \\cern.ch\dfs\Applications\Altium\Datasheets\FDN86246.pdf; ComponentLink1URL: \\cern.ch\dfs\Applications\Altium\Datasheets\FDN86246_Package.pdf; ComponentLink1Description: Package Drawing; Author: CERN DEM BC; CreateDate: 10.10.2019; LatestRevisionDate: 10.10.2019
footprint SOT95P237X112-3N
pins: 1 G, 2 S, 3 D

## FIDUCIAL_TARGET_S100-200
designator FTG?, comment Use only in PCB  (value not drawn)
Fiducial Target; Part Number: FIDUCIAL_TARGET_S100-200; Part Description: Square Fiducial Target, Top Layer, 1.0mm, Top Solder 2.0mm, Keepout =2.0mm; Mounted: No; Component Kind: Standard (No BOM); Component Type: Standard (No BOM); Footprint: FIDUCIAL_TOP_S100-200; Pin Count: 1; Family: Fiducial; Socket: No; SMD: Yes; Sense: No; Status: None; ComponentHeight: 0mm; HelpURL: Undefined; Author: CERN DEM JLC; CreateDate: 09.02.2010; LatestRevisionDate: 04.04.2012; PackageDescription: Square Fiducial Target, Top Layer, 1.0mm, Top Solder 2.0mm, Keepout =2.0mm
footprint FIDUCIAL_TOP_S100-200

## FUSR_BOURNS_MF-PSMF050X-2
designator F?, comment 500mA-6V
Fuse; Part Number: FUSR_BOURNS_MF-PSMF050X-2; Part Description: PTC Resettable Fuse; Manufacturer: BOURNS; Manufacturer Part Number: MF-PSMF050X-2; PressFit: No; Component Kind: Standard; Component Type: Standard; Footprint: FUSR_BOURNS_MF-PSMF050; Pin Count: 2; PackageDescription: PTC Resettable Fuse, MF-PSMS Series, Height 0.48mm; Family: Fuses Resettable; Mounted: Yes; Socket: No; SMD: Yes; Sense: No; Value: 500mA-6V; ComponentHeight: 0.48mm; HelpURL: \\cern.ch\dfs\Applications\Altium\Datasheets\FUSR_BOURNS_MF-PSMF.pdf; Author: CERN DEM MR; CreateDate: 02.12.2015; LatestRevisionDate: 02.12.2015
footprint FUSR_BOURNS_MF-PSMF050
pins: 1, 2

## Generic_mechanical
designator MECH?, comment CS-DSDHD44MF0-002.5  (mechanical)
D-Sub Cables DELUXE HD44 M/F MOLDED 2.5'; Part Description: D-sub44 cable; Manufacturer: Amphenol; PressFit: No; Value: 750mm; Part Number: CS-DSDHD44MF0-002.5; Component Type: Standard; Footprint: generic_MECH; Pin Count: 0; PackageDescription: generic; Mounted: Yes; Socket: No; SMD: No; Sense: No; Status: None; Manufacturer Part Number: CS-DSDHD44MF0-002.5; ComponentHeight: generic; Author: GK; CreateDate: 28.10.2019; LatestRevisionDate: 28.10.2019

## IFC_FIN1027A
designator IC?, comment FIN1027AMX
3.3V LVDS, 2-Bit, High-Speed, Differential Driver; Manufacturer: ON Semiconductor; PressFit: No; Bonding: No; Part Number: FIN1027AMX; Component Kind: Standard; Component Type: Standard; Device: FIN1027AMX; Footprint: SOIC127P600X175-8N; PackageDescription: SOIC 8, Pitch 1.27mm - Body 4x5mm, IPC Medium Density; Part Description: 3.3V LVDS, 2-Bit, High-Speed, Differential Driver; Manufacturer Part Number: FIN1027AMX; Pin Count: 8; Case: SOIC8; Mounted: Yes; Socket: No; SMD: Yes; Sense: No; ComponentHeight: 0.8mm; Author: GK; HelpURL: \\cern.ch\dfs\Applications\Altium\Datasheets\FIN1101K8X.pdf; CreateDate: 08/11/2016; LatestRevisionDate: 08/11/2016
footprint SOIC127P600X175-8N (SOIC 8, Pitch 1.27mm - Body 4x5mm, IPC Medium Density)
pins: 1 VCC (power), 2 DIN1 (in), 3 DIN2RIN- (in), 4 GND (power), 5 DOUT- (out), 6 DOUT+ (out), 7 DOUT- (out), 8 DOUT+ (out)

## IFC_FIN1028
designator IC?, comment FIN1028MX
3.3V LVDS 2-Bit High-Speed Differential Reciever; Manufacturer: ON Semiconductor; PressFit: No; Bonding: No; Part Number: FIN1028MX; Component Kind: Standard; Component Type: Standard; Device: FIN1028MX; Footprint: SOIC127P600X175-8N; PackageDescription: SOIC 8, Pitch 1.27mm - Body 4x5mm, IPC Medium Density; Part Description: 3.3V LVDS 2-Bit High-Speed Differential Reciever; Manufacturer Part Number: FIN1028MX; Pin Count: 8; Case: SOIC8; Mounted: Yes; Socket: No; SMD: Yes; Sense: No; ComponentHeight: 0.8mm; Author: GK; HelpURL: \\cern.ch\dfs\Applications\Altium\Datasheets\FIN1101K8X.pdf; CreateDate: 08/11/2016; LatestRevisionDate: 08/11/2016
footprint SOIC127P600X175-8N (SOIC 8, Pitch 1.27mm - Body 4x5mm, IPC Medium Density)
pins: 1 RIN1- (in), 2 RIN1+ (in), 3 RIN2+ (in), 4 RIN2- (in), 5 GND (power), 6 ROUT2 (out), 7 ROUT1 (out), 8 VCC (power)

## IFC_LAN8742A
designator IC?, comment LAN8742A-CZ-TR
LAN8742A-CZ-TR - Small Footprint RMII 10/100 Ethernet, Transceiver with HP Auto-MDIX and flexPWR Technology SQFN-24; Manuf_1: MICROCHIP; Order: LAN8742A-CZ-TR; Manuf_Part_1: LAN8742A-CZ-TR; Distrib: MICROCHIP
footprint QFN24_0R5_4X4 (Footprint not found)
pins: 1 VDD2A, 2 LED2/nINT/nPME/nINTSEL, 3 LED1/nINT/nPME/REGOFF, 4 XTAL2, 5 XTAL1/CLKIN, 6 VDDCR, 7 RXD1/MODE1, 8 RXD0/MODE0, 9 VDDIO, 10 RXER/PHYAD0, 11 CRS_DV/MODE2, 12 MDIO, 13 MDC, 14 nINT/REFCLK0, 15 nRST, 16 TXEN, 17 TXD0, 18 TXD1, 19 VDD1A, 20 TXN, 21 TXP, 22 RXN, 23 RXP, 24 RBIAS, 25 GND_EP

## IND0603_MURATA_BLM18SG221TN1
designator L?, comment 220R@100MHz
Part Number: IND0603_MURATA_BLM18SG221TN1; Part Description: SMD EMIFIL Suppression Chip Ferrite Bead; Manufacturer: MURATA; Manufacturer Part Number: BLM18SG221TN1; Power: 2.5A; Resistance: 0.04R; Tolerance: ±25%; Component Kind: Standard; Component Type: Standard; Footprint: INDC1608X95N; Pin Count: 2; Value: 220R@100MHz; Case: 0603; Mounted: Yes; Socket: No; SMD: Yes; Sense: No; ComponentHeight: 0.95mm; HelpURL: \\cern.ch\dfs\Applications\Altium\Datasheets\IND0603_MURATA_BLM18S.pdf; Author: CERN DEM MR; CreateDate: 08.01.2016; LatestRevisionDate: 25.10.2018
footprint INDC1608X95N
pins: 1, 2
1 alternate drawing of the same symbol

## IND0805_MURATA_BLM21PG221SN1D
designator L??, comment 220R@100MHz
Inductor; Part Number: IND0805_MURATA_BLM21PG221SN1D; Part Description: SMD EMIFIL Suppression Chip Bead Ferrite; Manufacturer: MURATA; Manufacturer Part Number: BLM21PG221SN1D; Power: 2A; Resistance: 0.05R; Tolerance: ±25%; Table: Inductors SMD; Component Kind: Standard; Component Type: Standard; Footprint: INDC2012X105N; Pin Count: 2; Value: 220R@100MHz; Status: None; Case: 0805; Mounted: Yes; Socket: No; SMD: Yes; ComponentHeight: 1.05mm; HelpURL: \\cern.ch\dfs\Applications\Altium\Datasheets\IND0402_MURATA_BLM21P.pdf; Author: CERN DEM JLC; CreateDate: 25/01/2010; LatestRevisionDate: 25/01/2010
footprint INDC2012X105N (Footprint not found)
pins: 1, 2

## IND_1.5UH_20%_TDK_SPM6530
designator L?, comment 1.5uH
Inductor With Core; Part Number: IND_1.5UH_20%_TDK_SPM6530; Part Description: SMD Inductor for Power Circuits (Wound Metal), SPM Series; Manufacturer: TDK; Manufacturer Part Number: SPM6530T-1R5M100; Power: 11A; Resistance: 0.0097R; Tolerance: ±20%; Component Kind: Standard; Component Type: Standard; Footprint: IND_TDK_SPM6530; Pin Count: 2; Value: 1.5uH; Mounted: Yes; Socket: No; SMD: Yes; Sense: No; ComponentHeight: 3mm; HelpURL: \\cern.ch\dfs\Applications\Altium\Datasheets\IND_TDK_SPM6530.pdf; Author: CERN DEM MR; CreateDate: 08.11.2016; LatestRevisionDate: 08.11.2016
footprint IND_TDK_SPM6530
pins: 1, 2

## IND_1MH_50%_WURTH_WE-SL2-744222
designator L?, comment 2x1mH
Inductor Common Mode; Part Number: IND_1MH_50%_WURTH_WE-SL2-744222; Part Description: Common Mode SMD Line Filter (WE-SL2 Series); Manufacturer: WURTH ELEKTRONIK; Manufacturer Part Number: 744222; Power: 800mA; Resistance: 0.31R; Tolerance: ±50%; Component Kind: Standard; Component Type: Standard; Footprint: IND_WURTH_WE-SL2; Pin Count: 4; Value: 2x1mH; Mounted: Yes; Socket: No; SMD: Yes; Sense: No; ComponentHeight: 5.3mm; HelpURL: \\cern.ch\dfs\Applications\Altium\Datasheets\IND_WURTH_WE-SL2_744222.pdf; Author: CERN DEM JLC; CreateDate: 04.06.2012; LatestRevisionDate: 15.10.2012
footprint IND_WURTH_WE-SL2
pins: 1, 2, 3, 4

## IND_10UH_10%_MURATA-PS_8400
designator L?, comment 10uH
Inductor With Core; Part Number: IND_10UH_10%_MURATA-PS_8400; Part Description: Miniature Surface Mount Power Inductor (8400 Series); Manufacturer: MURATA POWER SOLUTIONS; Manufacturer Part Number: 84103C; Power: 950mA; Resistance: 0.24R; Tolerance: ±10%; Component Kind: Standard; Component Type: Standard; Footprint: IND_MURATA-PS_8400; Pin Count: 2; Value: 10uH; Mounted: Yes; Socket: No; SMD: Yes; Sense: No; ComponentHeight: 2.9mm; HelpURL: \\cern.ch\dfs\Applications\Altium\Datasheets\IND_MURATA-PS_8400.pdf; Author: CERN DEM JLC; CreateDate: 02.07.2012; LatestRevisionDate: 02.07.2012
footprint IND_MURATA-PS_8400
pins: 1, 2

## IND_MURATA_DLW21SN900SQ2L
designator L?, comment 90R@100MHz
Inductor Common Mode; Part Number: IND_MURATA_DLW21SN900SQ2L; Part Description: Wire Wound Common Mode Choke Coil (DLW21S Series); Manufacturer: MURATA; Manufacturer Part Number: DLW21SN900SQ2L; Power: 330mA; Resistance: 0.35R; Tolerance: ±25%; Component Kind: Standard; Component Type: Standard; Footprint: IND_MURATA_DLW21S; Pin Count: 4; Value: 90R@100MHz; Case: 0805; Mounted: Yes; Socket: No; SMD: Yes; Sense: No; ComponentHeight: 1.4mm; HelpURL: \\cern.ch\dfs\Applications\Altium\Datasheets\IND_MURATA_DLW21S.pdf; Author: CERN DEM JLC; CreateDate: 01.07.2014; LatestRevisionDate: 01.07.2014
footprint IND_MURATA_DLW21S
pins: 1, 2, 3, 4

## JUMPER
designator JP?, comment 1798942 (goldpin 2x 2.54)
Jumper; Supplier 1: Farnell; Supplier Part Number 1: 1798942
footprint jump
pins: 1 E1, 2 E2

## LED_BIVAR_H485CHHGGDL
designator LD?, comment Green/Green/HeRed/HeRed  (value not drawn)
LED x4 G-1C2A-BOT_G-3C4A_H-5C6A_H-7C8A-TOP; Part Number: LED_BIVAR_H485CHHGGDL; Part Description: Quad-Level 2mm (Green+Green+HeRed+HeRed) LED, PCB Edge Mounting; Manufacturer: BIVAR; Manufacturer Part Number: H485CHHGGDL; PressFit: No; Bonding: No; Component Kind: Standard; Component Type: Standard; Color: Green/Green/HeRed/HeRed; Footprint: LED_BIVAR_H485CHHGGDL; PackageDescription: Quad-Level 2mm (Green+Green+HeRed+HeRed) LED, PCB Edge Mounting  BIVAR H485C Serie; Status: Not Recommended; Pin Count: 8; Mounted: Yes; Socket: No; SMD: No; Sense: No; ComponentHeight: 11.3mm; HelpURL: \\cern.ch\dfs\Applications\Altium\Datasheets\LED_BIVAR_H485C.pdf; Author: CERN DEM BC; CreateDate: 12.11.2015; LatestRevisionDate: 12.11.2015
footprint LED_BIVAR_H485CHHGGDL
part A pins: 1 C, 2 A
part B pins: 3 C, 4 A
part C pins: 5 C, 6 A
part D pins: 7 C, 8 A
part A text: BOT; Green
part B text: MBOT; Green
part C text: MTOP; Red
part D text: TOP; Red

## LED_KINGBRIGHT_KPH-1608CGCK
designator LD?, comment Green
LED Green 1C 2A; Part Number: LED_KINGBRIGHT_KPH-1608CGCK; Part Description: SMD Green LED, Case 1.6mmX0.8mm(0603), 0.65mm Thickness; Manufacturer: KINGBRIGHT; Manufacturer Part Number: KPH-1608CGCK; PressFit: No; Bonding: No; Component Kind: Standard; Component Type: Standard; Color: Green; Footprint: LED_KINGBRIGHT_KPH-1608CGCK; PackageDescription: SMT Green LED, Case 0603, Body L 1.6 x W 0.8mm H 0.65mm; Pin Count: 2; Mounted: Yes; Socket: No; SMD: Yes; Sense: No; ComponentHeight: 0.65mm; HelpURL: \\cern.ch\dfs\Applications\Altium\Datasheets\LED_KINGBRIGHT_KPH-1608CGCK.pdf; Author: CERN DEM JLC; CreateDate: 03.07.2017; LatestRevisionDate: 03.07.2017; Case: 0603
footprint LED_KINGBRIGHT_KPH-1608CGCK
pins: 1 C, 2 A
1 alternate drawing of the same symbol

## LED_KINGBRIGHT_KPH-1608SURCK
designator LD?, comment Red
LED Red 1C 2A; Part Number: LED_KINGBRIGHT_KPH-1608SURCK; Part Description: SMD Hyper Red LED, Case 1.6mmX0.8mm(0603), 0.65mm Thickness; Manufacturer: KINGBRIGHT; Manufacturer Part Number: KPH-1608SURCK; PressFit: No; Bonding: No; Component Kind: Standard; Component Type: Standard; Color: Red; Footprint: LED_KINGBRIGHT_KPH-1608SURCK; PackageDescription: SMT Hyper Red LED, Case 0603, Body L 1.6 x W 0.8mm H 0.65mm; Pin Count: 2; Mounted: Yes; Socket: No; SMD: Yes; Sense: No; ComponentHeight: 0.65mm; HelpURL: \\cern.ch\dfs\Applications\Altium\Datasheets\LED_KINGBRIGHT_KPH-1608SURCK.pdf; Author: CERN DEM JLC; CreateDate: 03.07.2017; LatestRevisionDate: 03.07.2017; Case: 0603
footprint LED_KINGBRIGHT_KPH-1608SURCK
pins: 1 C, 2 A
1 alternate drawing of the same symbol

## LM75AIMM/NOPB
designator IC?
Digital Temperature Sensor and Thermal Watchdog with Two-Wire Interface; Part Description: -25° to +100°C ±2°C Digital Temperature Sensor and Thermal Watchdog with Two-Wire Interface; Manufacturer: TEXAS INSTRUMENTS; PressFit: No; Bonding: No; Part Number: LM75AIMM/NOPB; Component Kind: Standard; Component Type: Standard; Device: LM75AIMM/NOPB; Footprint: SOP65P490X109-8N; PackageDescription: SOP, 0.65mm Pitch; 8 Pin, 3.00mm W X 3.00mm L X 1.09mm H body, IPC Medium Density; Manufacturer Part Number: LM75AIMM; Pin Count: 8; Case: SSOP8; Mounted: Yes; Socket: No; SMD: Yes; Sense: No; ComponentHeight: 1.09mm; HelpURL: \\cern.ch\dfs\Applications\Altium\Datasheets\LM75AIMM-NOPB.pdf; Author: CERN DEM JLC; CreateDate: 15.10.2012; LatestRevisionDate: 01.06.2022
footprint SOP65P490X109-8N
pins: 1 SDA (io), 2 SCL (in), 3 O.S. (out), 4 GND (power), 5 A2 (in), 6 A1 (in), 7 A0 (in), 8 +VS (power)
text: °C

## MAX6126AASA30+
designator IC?
Ultra-High-Precision, Ultra-Low-Noise, Voltage Reference; Part Description: 3V, 0.02%, 3ppm/°C, Ultra-High-Precision, Ultra-Low-Noise, Voltage References; Manufacturer: MAXIM; PressFit: No; Bonding: No; Part Number: MAX6126AASA30+; Component Kind: Standard; Component Type: Standard; Device: MAX6126AASA30+; Footprint: SOIC127P600X175-8N; PackageDescription: SOIC 8, Pitch 1.27mm, Body 4x5mm, IPC Medium Density; Manufacturer Part Number: MAX6126AASA30; Pin Count: 8; Case: SOIC8; Mounted: Yes; Socket: No; SMD: Yes; Sense: No; ComponentHeight: 1.75mm; HelpURL: \\cern.ch\dfs\Applications\Altium\Datasheets\MAX6126AASA30+.pdf; Author: CERN DEM JLC; CreateDate: 13.08.2014; LatestRevisionDate: 04.04.2022
footprint SOIC127P600X175-8N
pins: 1 NR, 2 IN (in), 3 GND (power), 4 GNDS (power), 6 OUTS (in), 7 OUTF (power)

## MAX31865ATP+
designator IC?
RTD-to-Digital Converter; Manufacturer: MAXIM; PressFit: No; Bonding: No; Part Number: MAX31865ATP+; Component Kind: Standard; Component Type: Standard; Device: MAX31865ATP+; Footprint: QFN65P500X500X80-21N-S335; PackageDescription: QFN, 0.65mm pitch, Square; 20 pin, 5.00mm L X 5.00mm W X 0.80mm H body (w/Thermal Tab 3.35 X 3.35mm), IPC Medium Density; Part Description: RTD-to-Digital Converter; Manufacturer Part Number: MAX31865ATP; Pin Count: 21; Case: QFN20; Mounted: Yes; Socket: No; SMD: Yes; Sense: No; ComponentHeight: 0.8mm; Author: CERN DEM MR; HelpURL: \\cern.ch\dfs\Applications\Altium\Datasheets\MAX31865ATP+.pdf; CreateDate: 09.06.2016; LatestRevisionDate: 04.04.2022
footprint QFN65P500X500X80-21N-S335
pins: 1 BIAS (out), 2 REFIN+ (in), 3 REFIN- (in), 4 ISENSOR (in), 5 FORCE+ (in), 6 FORCE2 (in), 7 RTDIN+ (in), 8 RTDIN- (in), 9 FORCE- (in), 10 GND2 (power), 11 SDI (in), 12 SCLK (in), 13 ~{CS} (in), 14 SDO (out), 15 DGND (power), 16 GND1 (power), 17 NC, 18 ~{DRDY} (out), 19 DVDD (power), 20 VDD (power), 21 EP (power)

## MM3Z3V3ST1G
designator D?
Zener Diode; Part Description: Zener Voltage Regulator, Tight Tolerance Portfolio; Manufacturer: ON SEMICONDUCTOR; Voltage: 3.3V; Power: 300mW; PressFit: No; Bonding: No; Part Number: MM3Z3V3ST1G; Component Kind: Standard; Component Type: Standard; Device: MM3Z3V3ST1G; Footprint: SOD2512X110N; PackageDescription: Small Outline Diode (SOD-323), 1.70mm W X 1.25mm L X 1.10mm H body, IPC Medium Density; Manufacturer Part Number: MM3Z3V3S; Pin Count: 2; Case: SOD-323; Mounted: Yes; Socket: No; SMD: Yes; Sense: No; ComponentHeight: 1.1mm; HelpURL: \\cern.ch\dfs\Applications\Altium\Datasheets\MM3ZxxxST1G.pdf; Author: CERN DEM BC; CreateDate: 23.03.2021; LatestRevisionDate: 24.05.2022
footprint SOD2512X110N
pins: 1 C, 2 A

## MOLEX_39-30-0040
designator J?, comment Mini-Fit Jr.™  (value not drawn)
Connector 4 Male; Part Number: MOLEX_39-30-0040; Part Description: 4.20mm (.165") Pitch Mini-Fit Jr. Header, Dual Row, Right Angle with Snap-in Plastic Peg PCB Lock, 4 Circuits; Manufacturer: MOLEX; PressFit: No; Component Kind: Standard; Component Type: Standard; Footprint: MOLEX_39-30-0040; Pin Count: 4; Family: Mini-Fit Jr.™; Mounted: Yes; Socket: No; SMD: No; Sense: No; Status: None; Manufacturer Part Number: 39-30-0040; ComponentHeight: 11.4mm; HelpURL: \\cern.ch\dfs\Applications\Altium\Datasheets\MOLEX_39-30-0040.pdf; Author: CERN DEM JLC; CreateDate: 02.10.2018; LatestRevisionDate: 02.10.2018
footprint MOLEX_39-30-0040
pins: 1 (io), 2 (io), 3 (io), 4 (io)
1 alternate drawing of the same symbol

## MOLEX_52745-1097
designator J?, comment FFC/FPC  (value not drawn)
Connector 10 Female; Part Number: MOLEX_52745-1097; Part Description: 10 Contacts, 0.5mm Pitch, Right Angled Surface Mount FFC/FPC Connector, ZIF, Top Contact Style; Manufacturer: MOLEX; Manufacturer Part Number: 52745-1097; PressFit: No; Component Kind: Standard; Component Type: Standard; Footprint: MOLEX_52745-1097; Pin Count: 10; Family: FFC/FPC; Mounted: Yes; Socket: No; SMD: Yes; Sense: No; Status: None; ComponentHeight: 2mm; HelpURL: \\cern.ch\dfs\Applications\Altium\Datasheets\MOLEX_52745-1097.pdf; Author: CERN DEM JLC; CreateDate: 04.11.2014; LatestRevisionDate: 05.12.2014
footprint MOLEX_52745-1097
pins: 1 (io), 2 (io), 3 (io), 4 (io), 5 (io), 6 (io), 7 (io), 8 (io), 9 (io), 10 (io)
1 alternate drawing of the same symbol